# Altium integrated library Resistors$.IntLib: 28 symbols
Pins are listed as number, name and electrical type; pins without a type are passive.

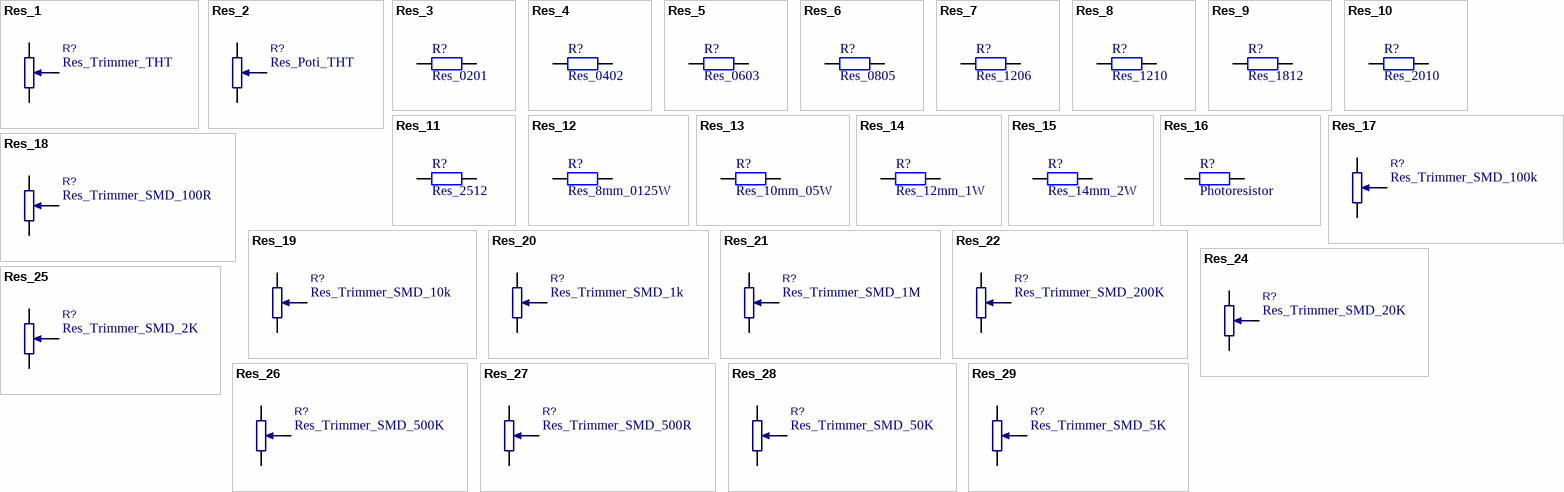
[diagram p0: symbols Res_1 to Res_29]

## Res_1
designator R?, comment Res_Trimmer_THT
P: 0.25W; UID: Res_1; Name: Res_Trimmer_THT; ComponentLink1URL: #NAME?; mounting: THT
footprint Res_THT_Trimmer
pins: 1 -, 2 +, 3 W
1 alternate drawing of the same symbol

## Res_2
designator R?, comment Res_Poti_THT
P: 0.25W; UID: Res_2; Name: Res_Poti_THT; ComponentLink1URL: #NAME?; mounting: THT
footprint Res_THT_Poti
pins: 1 -, 2 +, 3 W
1 alternate drawing of the same symbol

## Res_3
designator R?, comment Res_0201
UID: Res_3; Name: Res_0201; ComponentLink1URL: #NAME?; mounting: SMD
footprint _0201
pins: 1, 2

## Res_4
designator R?, comment Res_0402
UID: Res_4; Name: Res_0402; ComponentLink1URL: #NAME?; mounting: SMD
footprint _0402
pins: 1, 2

## Res_5
designator R?, comment Res_0603
UID: Res_5; Name: Res_0603; ComponentLink1URL: #NAME?; mounting: SMD
footprint _0603
pins: 1, 2

## Res_6
designator R?, comment Res_0805
UID: Res_6; Name: Res_0805; ComponentLink1URL: #NAME?; mounting: SMD
footprint _0805
pins: 1, 2

## Res_7
designator R?, comment Res_1206
UID: Res_7; Name: Res_1206; ComponentLink1URL: #NAME?; mounting: SMD
footprint _1206
pins: 1, 2

## Res_8
designator R?, comment Res_1210
UID: Res_8; Name: Res_1210; ComponentLink1URL: #NAME?; mounting: SMD
footprint _1210
pins: 1, 2

## Res_9
designator R?, comment Res_1812
UID: Res_9; Name: Res_1812; ComponentLink1URL: #NAME?; mounting: SMD
footprint _1812
pins: 1, 2

## Res_10
designator R?, comment Res_2010
UID: Res_10; Name: Res_2010; ComponentLink1URL: #NAME?; mounting: SMD
footprint _2010
pins: 1, 2

## Res_11
designator R?, comment Res_2512
UID: Res_11; Name: Res_2512; ComponentLink1URL: #NAME?; mounting: SMD
footprint _2512
pins: 1, 2

## Res_12
designator R?, comment Res_8mm_0125W
mm: 8mm; P: 0.125W; UID: Res_12; Name: Res_8mm_0125W; ComponentLink1URL: #NAME?; mounting: THT
footprint Res_THT_8mm_0125W
pins: 1, 2

## Res_13
designator R?, comment Res_10mm_05W
mm: 10mm; P: 0.5W; UID: Res_13; Name: Res_10mm_05W; ComponentLink1URL: #NAME?; mounting: THT
footprint Res_THT_10mm_05W
pins: 1, 2

## Res_14
designator R?, comment Res_12mm_1W
mm: 12mm; P: 1W; UID: Res_14; Name: Res_12mm_1W; ComponentLink1URL: #NAME?; mounting: THT
footprint Res_THT_12mm_1W
pins: 1, 2

## Res_15
designator R?, comment Res_14mm_2W
mm: 14mm; P: 2W; UID: Res_15; Name: Res_14mm_2W; ComponentLink1URL: #NAME?; mounting: THT
footprint Res_THT_14mm_2W
pins: 1, 2

## Res_16
designator R?, comment Photoresistor
RS_number: 455-8036; UID: Res_16; Name: Photoresistor; Name_Hyperlink: Photoresistor; ComponentLink1URL: #NAME?; mounting: THT
footprint Cap_THT_cer_254mm
pins: 1, 2

## Res_17
designator R?, comment Res_Trimmer_SMD_100k
RS_number: 652-4833; R: 100k; P: 0.125W; UID: Res_17; Name: Res_Trimmer_SMD_100k; Name_Hyperlink: SMD-Trimmer 0,125W 20% 1-gängig 100K; ComponentLink1URL: #NAME?; mounting: SMD
footprint Res_SMD_Trimmer
pins: 1 -, 2 +, 3 W
1 alternate drawing of the same symbol

## Res_18
designator R?, comment Res_Trimmer_SMD_100R
RS_number: 652-4855; R: 100R; P: 0.125W; UID: Res_18; Name: Res_Trimmer_SMD_100R; Name_Hyperlink: SMD-Trimmer 0,125W 20% 1-gängig 100R; ComponentLink1URL: #NAME?; mounting: SMD
footprint Res_SMD_Trimmer
pins: 1 -, 2 +, 3 W
1 alternate drawing of the same symbol

## Res_19
designator R?, comment Res_Trimmer_SMD_10k
RS_number: 652-4805; R: 10k; P: 0.125W; UID: Res_19; Name: Res_Trimmer_SMD_10k; Name_Hyperlink: SMD-Trimmer 0,125W 20% 1-gängig 10K; ComponentLink1URL: #NAME?; mounting: SMD
footprint Res_SMD_Trimmer
pins: 1 -, 2 +, 3 W
1 alternate drawing of the same symbol

## Res_20
designator R?, comment Res_Trimmer_SMD_1k
RS_number: 652-4827; R: 1k; P: 0.125W; UID: Res_20; Name: Res_Trimmer_SMD_1k; Name_Hyperlink: SMD-Trimmer 0,125W 20% 1-gängig 1K; ComponentLink1URL: #NAME?; mounting: SMD
footprint Res_SMD_Trimmer
pins: 1 -, 2 +, 3 W
1 alternate drawing of the same symbol

## Res_21
designator R?, comment Res_Trimmer_SMD_1M
RS_number: 652-4849; R: 1M; P: 0.125W; UID: Res_21; Name: Res_Trimmer_SMD_1M; Name_Hyperlink: SMD-Trimmer 0,125W 20% 1-gängig 1M; ComponentLink1URL: #NAME?; mounting: SMD
footprint Res_SMD_Trimmer
pins: 1 -, 2 +, 3 W
1 alternate drawing of the same symbol

## Res_22
designator R?, comment Res_Trimmer_SMD_200K
RS_number: 652-4883; R: 200K; P: 0.125W; UID: Res_22; Name: Res_Trimmer_SMD_200K; Name_Hyperlink: SMD-Trimmer 0,125W 20% 1-gängig 200K; ComponentLink1URL: #NAME?; mounting: SMD
footprint Res_SMD_Trimmer
pins: 1 -, 2 +, 3 W
1 alternate drawing of the same symbol

## Res_24
designator R?, comment Res_Trimmer_SMD_20K
RS_number: 652-4861; R: 20K; P: 0.125W; UID: Res_24; Name: Res_Trimmer_SMD_20K; Name_Hyperlink: SMD-Trimmer 0,125W 20% 1-gängig 20K; ComponentLink1URL: #NAME?; mounting: SMD
footprint Res_SMD_Trimmer
pins: 1 -, 2 +, 3 W
1 alternate drawing of the same symbol

## Res_25
designator R?, comment Res_Trimmer_SMD_2K
RS_number: 652-4899; R: 2K; P: 0.125W; UID: Res_25; Name: Res_Trimmer_SMD_2K; Name_Hyperlink: SMD-Trimmer 0,125W 20% 1-gängig 2K; ComponentLink1URL: #NAME?; mounting: SMD
footprint Res_SMD_Trimmer
pins: 1 -, 2 +, 3 W
1 alternate drawing of the same symbol

## Res_26
designator R?, comment Res_Trimmer_SMD_500K
RS_number: 652-4798; R: 500K; P: 0.125W; UID: Res_26; Name: Res_Trimmer_SMD_500K; Name_Hyperlink: SMD-Trimmer 0,125W 20% 1-gängig 500K; ComponentLink1URL: #NAME?; mounting: SMD
footprint Res_SMD_Trimmer
pins: 1 -, 2 +, 3 W
1 alternate drawing of the same symbol

## Res_27
designator R?, comment Res_Trimmer_SMD_500R
RS_number: 652-4782; R: 500R; P: 0.125W; UID: Res_27; Name: Res_Trimmer_SMD_500R; Name_Hyperlink: SMD-Trimmer 0,125W 20% 1-gängig 500R; ComponentLink1URL: #NAME?; mounting: SMD
footprint Res_SMD_Trimmer
pins: 1 -, 2 +, 3 W
1 alternate drawing of the same symbol

## Res_28
designator R?, comment Res_Trimmer_SMD_50K
RS_number: 652-4776; R: 50K; P: 0.125W; UID: Res_28; Name: Res_Trimmer_SMD_50K; Name_Hyperlink: SMD-Trimmer 0,125W 20% 1-gängig 50K; ComponentLink1URL: #NAME?; mounting: SMD
footprint Res_SMD_Trimmer
pins: 1 -, 2 +, 3 W
1 alternate drawing of the same symbol

## Res_29
designator R?, comment Res_Trimmer_SMD_5K
RS_number: 652-4748; R: 5K; P: 0.125W; UID: Res_29; Name: Res_Trimmer_SMD_5K; Name_Hyperlink: SMD-Trimmer 0,125W 20% 1-gängig 5K; ComponentLink1URL: #NAME?; mounting: SMD
footprint Res_SMD_Trimmer
pins: 1 -, 2 +, 3 W
1 alternate drawing of the same symbol